# EAGLE library part DS2726 (library maxim)
5-Cell to 10-Cell Li+ Protector with Cell Balancing Source: www.maxim-ic.com .. DS2726.pdf
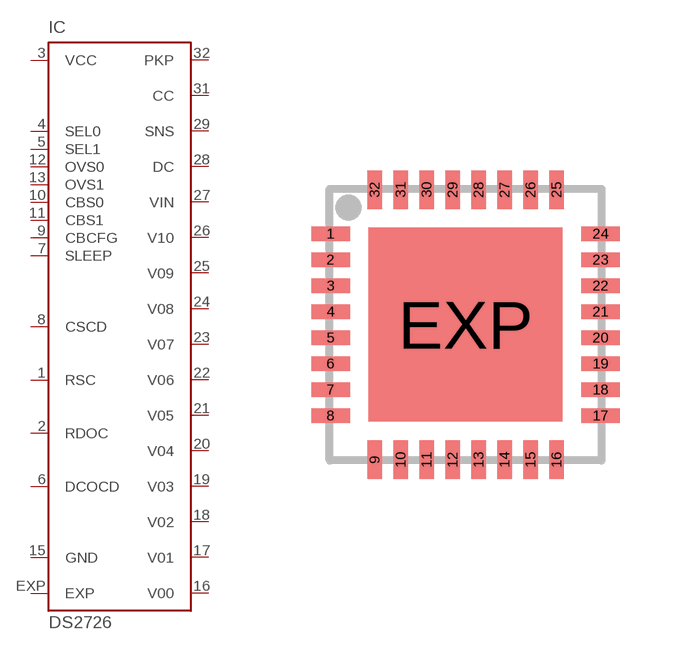
[diagram p274: symbol with the pads of TQFN32; footprint TQFN32]

Designator prefix IC

## DS2726 (MPN: DS2726G+; OC_FARNELL: unknown; OC_NEWARK: 01N5678)  [TQFN32]
1  RSC  in
2  RDOC  in
3  VCC  pwr
4  SEL0  in
5  SEL1  in
6  DCOCD  in
7  SLEEP  in
8  CSCD  in
9  CBCFG  in
10  CBS0  in
11  CBS1  in
12  OVS0  in
13  OVS1  in
15  GND  pwr
16  V00  pas
17  V01  pas
18  V02  pas
19  V03  pas
20  V04  pas
21  V05  pas
22  V06  pas
23  V07  pas
24  V08  pas
25  V09  pas
26  V10  pas
27  VIN  in
28  DC  out
29  SNS  in
31  CC  out
32  PKP  in
EXP  EXP  pas

## Footprint TQFN32 (pad centres in mm)
TQFN 7x7 mm Source: www.maxim-ic.com/packages .. 90-0125.pdf
smd 0.965 x 0.366: 1 -3.378,2.275; 2 -3.378,1.625; 3 -3.378,0.975; 4 -3.378,0.325; 5 -3.378,-0.325; 6 -3.378,-0.975; 7 -3.378,-1.625; 8 -3.378,-2.275; 17 3.378,-2.275; 18 3.378,-1.625; 19 3.378,-0.975; 20 3.378,-0.325; 21 3.378,0.325; 22 3.378,0.975; 23 3.378,1.625; 24 3.378,2.275
smd 0.366 x 0.965: 9 -2.275,-3.378; 10 -1.625,-3.378; 11 -0.975,-3.378; 12 -0.325,-3.378; 13 0.325,-3.378; 14 0.975,-3.378; 15 1.625,-3.378; 16 2.275,-3.378; 25 2.275,3.378; 26 1.625,3.378; 27 0.975,3.378; 28 0.325,3.378; 29 -0.325,3.378; 30 -0.975,3.378; 31 -1.625,3.378; 32 -2.275,3.378
smd 4.851 x 4.851: EXP 0,0